# EAGLE library part LMV881LEX (library MOTO_LIB)
LOW NOISE OPAMP with Shutdown.
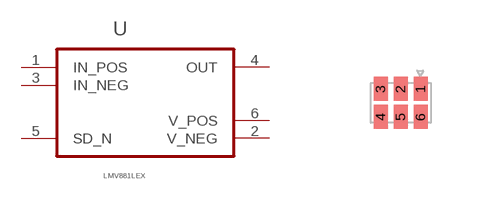
[diagram p4: symbol with the pads of DFN1_5X1PS0_5P6; footprint DFN1_5X1PS0_5P6]

Designator prefix U

## LMV881LEX (MPN: LMV881LEX; SUPPLIER: TI)  [DFN1_5X1PS0_5P6]
1  IN_POS  in
2  V_NEG  pwr
3  IN_NEG  in
4  OUT  out
5  SD_N  in
6  V_POS  pwr

## Footprint DFN1_5X1PS0_5P6 (pad centres in mm)
smd 0.35 x 0.6: 1 0.5,0.35; 2 0,0.35; 3 -0.5,0.35; 4 -0.5,-0.35; 5 0,-0.35; 6 0.5,-0.35